# EAGLE library part ATBZ-24-A2 (library ck_custom)
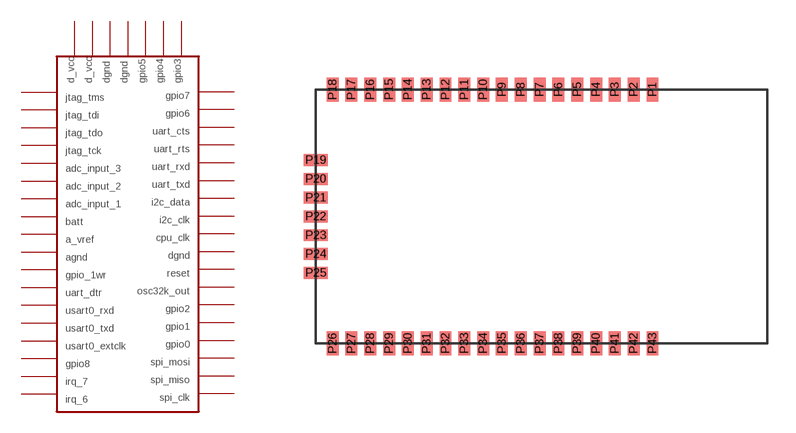
[diagram p3: symbol with the pads of ATZB-24-B2; footprint ATZB-24-B2]

Designator prefix -

## ATBZ-24-A2  [ATZB-24-B2]
P1  P$1
P2  P$2
P3  P$3
P4  P$4
P5  P$5
P6  P$6
P7  P$7
P8  P$8
P9  P$9
P10  P$10
P11  P$11
P12  P$12
P13  P$13
P14  P$14
P15  P$15
P16  P$16
P17  P$17
P18  P$18
P19  P$19
P20  P$20
P21  P$21
P22  P$22
P23  P$23
P24  P$24
P25  P$25
P26  P$26
P27  P$27
P28  P$28
P29  P$29
P30  P$30
P31  P$31
P32  P$32
P33  P$33
P34  P$34
P35  P$35
P36  P$36
P37  P$37
P38  P$38
P39  P$39
P40  P$40
P41  P$41
P42  P$42
P43  P$43

## Footprint ATZB-24-B2 (pad centres in mm)
smd 0.635 x 1.27: P1 17.9,13.5; P2 16.9,13.5; P3 15.9,13.5; P4 14.9,13.5; P5 13.9,13.5; P6 12.9,13.5; P7 11.9,13.5; P8 10.9,13.5; P9 9.9,13.5; P10 8.9,13.5; P11 7.9,13.5; P12 6.9,13.5; P13 5.9,13.5; P14 4.9,13.5; P15 3.9,13.5; P16 2.9,13.5; P17 1.9,13.5; P18 0.9,13.5; P26 0.9,0; P27 1.9,0; P28 2.9,0; P29 3.9,0; P30 4.9,0; P31 5.9,0; P32 6.9,0; P33 7.9,0; P34 8.9,0; P35 9.9,0; P36 10.9,0; P37 11.9,0; P38 12.9,0; P39 13.9,0; P40 14.9,0; P41 15.9,0; P42 16.9,0; P43 17.9,0
smd 1.27 x 0.635: P19 0,9.75; P20 0,8.75; P21 0,7.75; P22 0,6.75; P23 0,5.75; P24 0,4.75; P25 0,3.75